# EAGLE library part MCP2551 (library IC)
High-Speed CAN Transceiver http://ww1.microchip.com/downloads/en/devicedoc/21667f.pdf
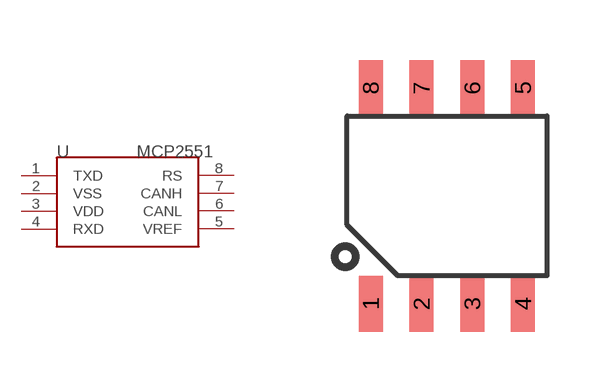
[diagram p17: symbol with the pads of SOIC8-6.0; footprint SOIC8-6.0]

Designator prefix U

## MCP2551-SOIC8  [SOIC8-6.0]
1  TXD
2  VSS
3  VDD
4  RXD
5  VREF
6  CANL
7  CANH
8  RS

## Footprint SOIC8-6.0 (pad centres in mm)
smd 0.6 x 1.4: 1 -1.905,-2.7; 2 -0.635,-2.7; 3 0.635,-2.7; 4 1.905,-2.7; 5 1.905,2.7; 6 0.635,2.7; 7 -0.635,2.7; 8 -1.905,2.7